# Altium schematic symbol library Connector Wire to Board.SchLib: 50 symbols
Pins are listed as number, name and electrical type; pins without a type are passive.

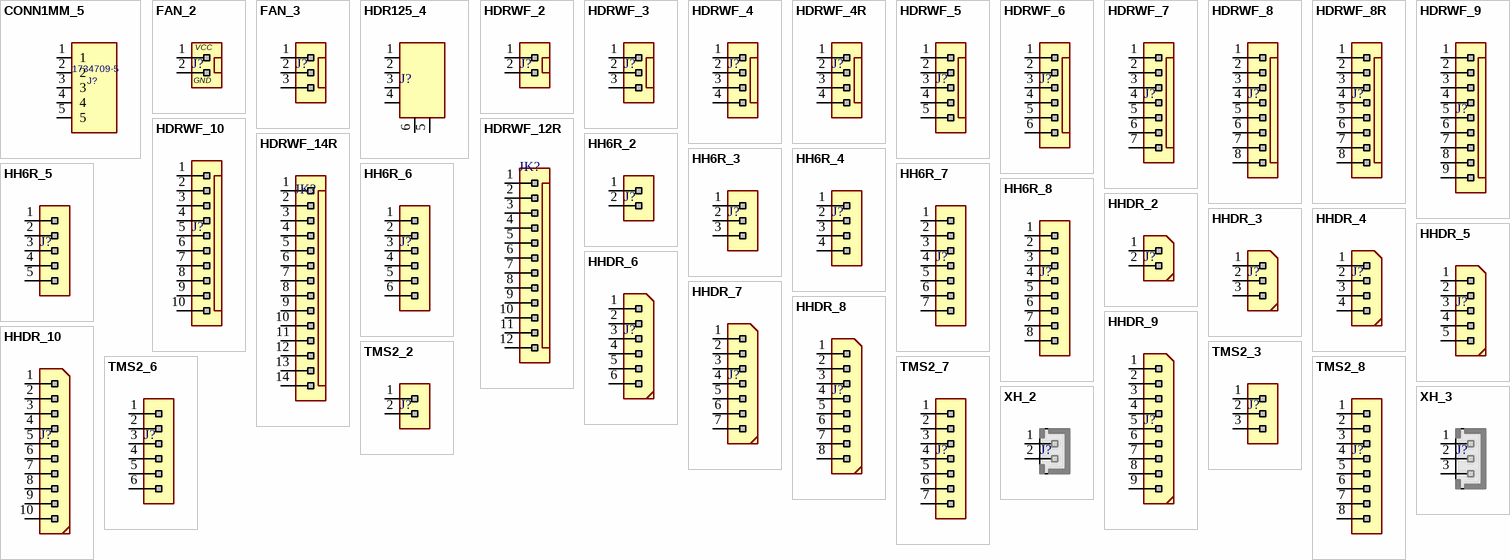
[diagram p0: symbols CONN1MM_5 to XH_3]

## CONN1MM_5
designator J?, comment 1734709-5
CON 1X5 SMT RA 1MM 124H SN; MANF: Tyco Electronics; MANF_P#: 1734709-5
footprint con5_1mm_ra_smt
pins: 1, 2, 3, 4, 5

## FAN_2
designator J?  (value not drawn)
Header, WF, Pitch: 2.54mm; VALUE: FAN_2
footprint WF_2 (DS1070  WF, Cvilux CI31 pitch 2.54mm)
signal-integrity model Connector
pins: 1, 2
text: VCC; GND

## FAN_3
designator J?  (value not drawn)
Header, WF, Pitch: 2.54mm; VALUE: FAN_3
footprint WF_3 (DS1070  WF, Cvilux CI31 pitch 2.54mm)
signal-integrity model Connector
pins: 1, 2, 3

## HDR125_4
designator J?  (value not drawn)
CONN, HEADER, 1.25mm PITCH, MOLEX PicoBlade 0532610471; MANF: MOLEX; MANF_P#: 0532610471; VALUE: HDR125_4
footprint WF_4 (DS1070  WF, Cvilux CI31 pitch 2.54mm)
signal-integrity model Connector
pins: 1, 2, 3, 4, 5, 6

## HDRWF_2
designator J?  (value not drawn)
Header, WF, Pitch: 2.54mm; VALUE: HDRWF_2
footprint WF_2 (DS1070  WF, Cvilux CI31 pitch 2.54mm)
signal-integrity model Connector
pins: 1, 2

## HDRWF_3
designator J?  (value not drawn)
Header, WF, Pitch: 2.54mm; VALUE: HDRWF_3
footprint WF_3 (DS1070  WF, Cvilux CI31 pitch 2.54mm)
signal-integrity model Connector
pins: 1, 2, 3

## HDRWF_4
designator J?  (value not drawn)
Header, WF, Pitch: 2.54mm; VALUE: HDRWF_4
footprint WF_4 (DS1070  WF, Cvilux CI31 pitch 2.54mm)
signal-integrity model Connector
pins: 1, 2, 3, 4

## HDRWF_4R
designator J?, comment HDRWF_4  (value not drawn)
Header, WF, Pitch: 2.54mm, RIGHT ANGLE; VALUE: HDRWF_4
footprint WF_4R (DS1070  WF, Cvilux CI31 pitch 2.54mm right angle)
signal-integrity model Connector
pins: 1, 2, 3, 4

## HDRWF_5
designator J?  (value not drawn)
Header, WF, Pitch: 2.54mm; VALUE: HDRWF_5
footprint WF_5 (DS1070  WF, Cvilux CI31 pitch 2.54mm)
signal-integrity model Connector
pins: 1, 2, 3, 4, 5

## HDRWF_6
designator J?  (value not drawn)
Header, WF, Pitch: 2.54mm; VALUE: HDRWF_6
footprint WF_6 (DS1070  WF, Cvilux CI31 pitch 2.54mm)
signal-integrity model Connector
pins: 1, 2, 3, 4, 5, 6

## HDRWF_7
designator J?  (value not drawn)
Header, WF, Pitch: 2.54mm; VALUE: HDRWF_7
footprint WF_7 (DS1070  WF, Cvilux CI31 pitch 2.54mm)
signal-integrity model Connector
pins: 1, 2, 3, 4, 5, 6, 7

## HDRWF_8
designator J?  (value not drawn)
Header, WF, Pitch: 2.54mm; VALUE: HDRWF_8
footprint WF_8 (DS1070  WF, Cvilux CI31 pitch 2.54mm)
signal-integrity model Connector
pins: 1, 2, 3, 4, 5, 6, 7, 8

## HDRWF_8R
designator J?, comment HDRWF_8  (value not drawn)
Header, WF, Pitch: 2.54mm, RIGHT ANGLE; VALUE: HDRWF_8
footprint WF_8R (DS1070  WF, Cvilux CI31 pitch 2.54mm right angle)
signal-integrity model Connector
pins: 1, 2, 3, 4, 5, 6, 7, 8

## HDRWF_9
designator J?  (value not drawn)
Header, WF, Pitch: 2.54mm; VALUE: HDRWF_9
footprint WF_9 (DS1070  WF, Cvilux CI31 pitch 2.54mm)
signal-integrity model Connector
pins: 1, 2, 3, 4, 5, 6, 7, 8, 9

## HDRWF_10
designator J?  (value not drawn)
Header, WF, Pitch: 2.54mm; VALUE: HDRWF_10
footprint WF_10 (DS1070  WF, Cvilux CI31 pitch 2.54mm)
signal-integrity model Connector
pins: 1, 2, 3, 4, 5, 6, 7, 8, 9, 10

## HDRWF_12R
designator JK?, comment HDRWF_12  (value not drawn)
Header, WF, Pitch: 2.54mm; VALUE: HDRWF_12
footprint WF_12R (Footprint not found)
signal-integrity model Connector
pins: 1, 2, 3, 4, 5, 6, 7, 8, 9, 10, 11, 12

## HDRWF_14R
designator JK?, comment HDRWF_14  (value not drawn)
Header, WF, Pitch: 2.54mm; VALUE: HDRWF_14
footprint WF_14R (DS1070  WF, Cvilux CI31 pitch 2.54mm right angle)
signal-integrity model Connector
pins: 1, 2, 3, 4, 5, 6, 7, 8, 9, 10, 11, 12, 13, 14

## HH6R_2
designator J?  (value not drawn)
Header, Housing, 6mm width, Pitch: 2.54mm, Righ angle; VALUE: HH6R_2
footprint HH6R_2
signal-integrity model Connector
pins: 1, 2

## HH6R_3
designator J?  (value not drawn)
Header, Housing, 6mm width, Pitch: 2.54mm, Righ angle; VALUE: HH6R_3
footprint HH6R_3
signal-integrity model Connector
pins: 1, 2, 3

## HH6R_4
designator J?  (value not drawn)
Header, Housing, 6mm width, Pitch: 2.54mm, Righ angle; VALUE: HH6R_4
footprint HH6R_4
signal-integrity model Connector
pins: 1, 2, 3, 4

## HH6R_5
designator J?  (value not drawn)
Header, Housing, 6mm width, Pitch: 2.54mm, Righ angle; VALUE: HH6R_5
footprint HH6R_5
signal-integrity model Connector
pins: 1, 2, 3, 4, 5

## HH6R_6
designator J?  (value not drawn)
Header, Housing, 6mm width, Pitch: 2.54mm, Righ angle; VALUE: HH6R_6
footprint HH6R_6
signal-integrity model Connector
pins: 1, 2, 3, 4, 5, 6

## HH6R_7
designator J?  (value not drawn)
Header, Housing, 6mm width, Pitch: 2.54mm, Righ angle; VALUE: HH6R_7
footprint HH6R_7
signal-integrity model Connector
pins: 1, 2, 3, 4, 5, 6, 7

## HH6R_8
designator J?  (value not drawn)
Header, Housing, 6mm width, Pitch: 2.54mm, Righ angle; VALUE: HH6R_8
footprint HH6R_6
signal-integrity model Connector
pins: 1, 2, 3, 4, 5, 6, 7, 8

## HHDR_2
designator J?  (value not drawn)
Header, Housing, Pitch: 2.54mm; VALUE: HHDR_2
footprint HHDR_2
signal-integrity model Connector
pins: 1, 2

## HHDR_3
designator J?  (value not drawn)
Header, Housing, Pitch: 2.54mm; VALUE: HHDR_3
footprint HHDR_3
signal-integrity model Connector
pins: 1, 2, 3

## HHDR_4
designator J?  (value not drawn)
Header, Housing, Pitch: 2.54mm; VALUE: HHDR_4
footprint HHDR_4
signal-integrity model Connector
pins: 1, 2, 3, 4

## HHDR_5
designator J?  (value not drawn)
Header, Housing, Pitch: 2.54mm; VALUE: HHDR_5
footprint HHDR_5
signal-integrity model Connector
pins: 1, 2, 3, 4, 5

## HHDR_6
designator J?  (value not drawn)
Header, Housing, Pitch: 2.54mm; VALUE: HHDR_6
footprint HHDR_6
signal-integrity model Connector
pins: 1, 2, 3, 4, 5, 6

## HHDR_7
designator J?  (value not drawn)
Header, Housing, Pitch: 2.54mm; VALUE: HHDR_7
footprint HHDR_7
signal-integrity model Connector
pins: 1, 2, 3, 4, 5, 6, 7

## HHDR_8
designator J?  (value not drawn)
Header, Housing, Pitch: 2.54mm; VALUE: HHDR_8
footprint HHDR_8
signal-integrity model Connector
pins: 1, 2, 3, 4, 5, 6, 7, 8

## HHDR_9
designator J?  (value not drawn)
Header, Housing, Pitch: 2.54mm; VALUE: HHDR_9
footprint HHDR_9
signal-integrity model Connector
pins: 1, 2, 3, 4, 5, 6, 7, 8, 9

## HHDR_10
designator J?  (value not drawn)
Header, Housing, Pitch: 2.54mm; VALUE: HHDR_10
footprint HHDR_10
signal-integrity model Connector
pins: 1, 2, 3, 4, 5, 6, 7, 8, 9, 10

## TMS2_2
designator J?  (value not drawn)
Header, Housing, Pitch 2mm; VALUE: TMS2_2
footprint TMS2_2 (pitch: 2.0mm)
signal-integrity model Connector
pins: 1, 2

## TMS2_3
designator J?  (value not drawn)
Header, Housing, Pitch 2mm; VALUE: TMS2_3
footprint TMS2_3 (pitch: 2.0mm)
signal-integrity model Connector
pins: 1, 2, 3

## TMS2_6
designator J?  (value not drawn)
Header, Housing, Pitch 2mm; VALUE: TMS2_6
footprint TMS2_6 (pitch: 2.0mm)
signal-integrity model Connector
pins: 1, 2, 3, 4, 5, 6

## TMS2_7
designator J?  (value not drawn)
Header, Housing, Pitch 2mm; VALUE: TMS2_7
footprint TMS2_7 (pitch: 2.0mm)
signal-integrity model Connector
pins: 1, 2, 3, 4, 5, 6, 7

## TMS2_8
designator J?  (value not drawn)
Header, Housing, Pitch 2mm; VALUE: TMS2_8
footprint TMS2_8 (pitch: 2.0mm)
signal-integrity model Connector
pins: 1, 2, 3, 4, 5, 6, 7, 8

## XH_2
designator J?, comment HHDR_2  (value not drawn)
JST-XH pitch: 2.5mm; VALUE: HHDR_2
footprint XH_2 (PW10-xx-M, JST-BxB-XH-A pitch: 2.5mm)
signal-integrity model Connector
pins: 1, 2

## XH_3
designator J?, comment HHDR_3  (value not drawn)
JST-XH pitch: 2.5mm; VALUE: HHDR_3
footprint XH_3 (PW10-xx-M, JST-BxB-XH-A pitch: 2.5mm)
signal-integrity model Connector
pins: 1, 2, 3

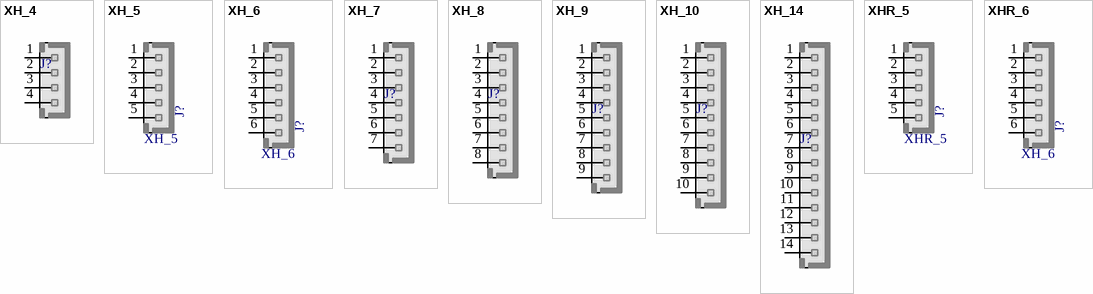
[diagram p1: symbols XH_4 to XHR_6]

## XH_4
designator J?, comment HHDR_4  (value not drawn)
JST-XH pitch: 2.5mm; VALUE: HHDR_4
footprint XH_4 (PW10-xx-M, JST-BxB-XH-A pitch: 2.5mm)
signal-integrity model Connector
pins: 1, 2, 3, 4

## XH_5
designator J?
JST-XH pitch: 2.5mm; MANF_P#: JST-B5B-XHA; MANF: JST; VALUE: XH_5
signal-integrity model Connector
footprint XH_5 (PW10-xx-M, JST-BxB-XH-A pitch: 2.5mm)
pins: 1, 2, 3, 4, 5

## XH_6
designator J?
JST-XH pitch: 2.5mm; MANF_P#: JST-S6B-XHA; MANF: JST; VALUE: XH_6
signal-integrity model Connector
footprint XH_6 (PW10-xx-M, JST-BxB-XH-A pitch: 2.5mm)
pins: 1, 2, 3, 4, 5, 6

## XH_7
designator J?, comment HHDR_7  (value not drawn)
JST-XH pitch: 2.5mm; VALUE: HHDR_7
footprint XH_7 (PW10-xx-M, JST-BxB-XH-A pitch: 2.5mm)
signal-integrity model Connector
pins: 1, 2, 3, 4, 5, 6, 7

## XH_8
designator J?, comment HHDR_8  (value not drawn)
JST-XH pitch: 2.5mm; VALUE: HHDR_8
footprint XH_8 (PW10-xx-M, JST-BxB-XH-A pitch: 2.5mm)
signal-integrity model Connector
pins: 1, 2, 3, 4, 5, 6, 7, 8

## XH_9
designator J?, comment HHDR_9  (value not drawn)
JST-XH pitch: 2.5mm; VALUE: HHDR_9
footprint XH_9 (PW10-xx-M, JST-BxB-XH-A pitch: 2.5mm)
signal-integrity model Connector
pins: 1, 2, 3, 4, 5, 6, 7, 8, 9

## XH_10
designator J?, comment HHDR_10  (value not drawn)
JST-XH pitch: 2.5mm; VALUE: HHDR_10
footprint XH_10 (PW10-xx-M, JST-BxB-XH-A pitch: 2.5mm)
signal-integrity model Connector
footprint HDR1X10_2.54_180 Edge
pins: 1, 2, 3, 4, 5, 6, 7, 8, 9, 10

## XH_14
designator J?, comment HHDR_10  (value not drawn)
JST-XH pitch: 2.5mm; VALUE: HHDR_10
footprint HDR1X14_2.54_180 Edge
pins: 1, 2, 3, 4, 5, 6, 7, 8, 9, 10, 11, 12, 13, 14

## XHR_5
designator J?
JST-XH pitch: 2.5mm; MANF: JST; MANF_P#: -; VALUE: XHR_5
signal-integrity model Connector
footprint XHR_5 (JST-SxB-XH-A pitch: 2.5mm)
pins: 1, 2, 3, 4, 5

## XHR_6
designator J?, comment XH_6
JST-XH pitch: 2.5mm; MANF: JST; MANF_P#: -; VALUE: XH_6
signal-integrity model Connector
footprint XHR_6 (JST-SxB-XH-A pitch: 2.5mm)
pins: 1, 2, 3, 4, 5, 6